# Altium integrated library INA219BID.IntLib: 1 symbol
Pins are listed as number, name and electrical type; pins without a type are passive.

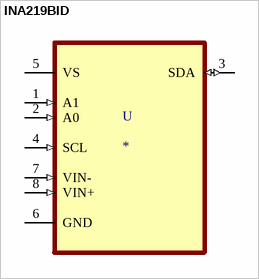
[diagram p0: symbol INA219BID]

## INA219BID
designator U
Current Monitor Regulator High-Side 10mA 8-SOIC; MP: INA219BID; MF: Texas Instruments; SnapEDA_Link: https://www.snapeda.com/parts/INA219BID/Texas%20Instruments/view-part/228188/?ref=snap; Availability: Unavailable; Price: None; Package: SOIC-8 Texas Instruments; Value: *
footprint SOIC127P600X175-8N
pins: 1 A1 (in), 2 A0 (in), 3 SDA (io), 4 SCL (in), 5 VS (power), 6 GND, 7 VIN- (in), 8 VIN+ (in)